# Altium schematic symbol library DDR3_96.Schlib: 1 symbol
Pins are listed as number, name and electrical type; pins without a type are passive.

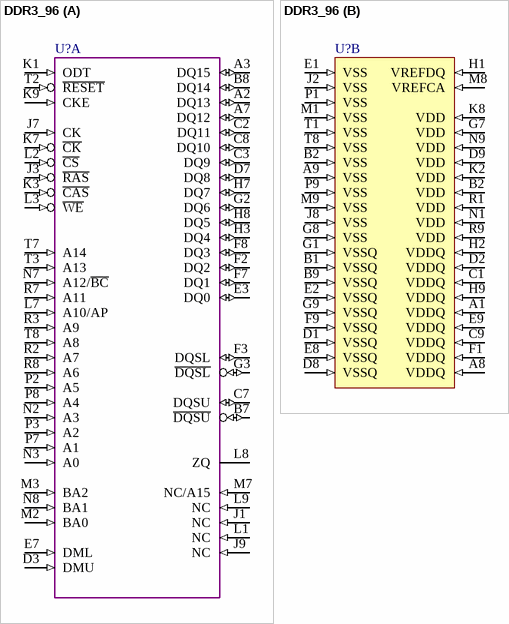
[diagram p0: symbol DDR3_96]

## DDR3_96
designator U?  (value not drawn)
part A pins: A2 DQ13 (io), A3 DQ15 (io), A7 DQ12 (io), B7 ~{DQSU} (io), B8 DQ14 (io), C2 DQ11 (io), C3 DQ9 (io), C7 DQSU (io), C8 DQ10 (io), D3 DMU (in), D7 DQ8 (io), E3 DQ0 (io), E7 DML (in), F2 DQ2 (io), F3 DQSL (io), F7 DQ1 (io), F8 DQ3 (io), G2 DQ6 (io), G3 ~{DQSL} (io), H3 DQ4 (io), H7 DQ7 (io), H8 DQ5 (io), J1 NC (in), J3 ~{RAS} (in), J7 CK (in), J9 NC (in), K1 ODT (in), K3 ~{CAS} (in), K7 ~{CK} (in), K9 CKE (in), L1 NC (in), L2 ~{CS} (in), L3 ~{WE} (in), L7 A10/AP (in), L8 ZQ, L9 NC (in), M2 BA0 (in), M3 BA2 (in), M7 NC/A15 (in), N2 A3 (in), N3 A0 (in), N7 A12/~{BC} (in), N8 BA1 (in), P2 A5 (in), P3 A2 (in), P7 A1 (in), P8 A4 (in), R2 A7 (in), R3 A9 (in), R7 A11 (in), R8 A6 (in), T2 ~{RESET} (in), T3 A13 (in), T7 A14 (in), T8 A8 (in)
part B pins: A1 VDDQ (in), A8 VDDQ (in), A9 VSS (in), B1 VSSQ (in), B2 VSS (in), B2 VDD (in), B9 VSSQ (in), C1 VDDQ (in), C9 VDDQ (in), D1 VSSQ (in), D2 VDDQ (in), D8 VSSQ (in), D9 VDD (in), E1 VSS (in), E2 VSSQ (in), E8 VSSQ (in), E9 VDDQ (in), F1 VDDQ (in), F9 VSSQ (in), G1 VSSQ (in), G7 VDD (in), G8 VSS (in), G9 VSSQ (in), H1 VREFDQ (in), H2 VDDQ (in), H9 VDDQ (in), J2 VSS (in), J8 VSS (in), K2 VDD (in), K8 VDD (in), M1 VSS (in), M8 VREFCA (in), M9 VSS (in), N1 VDD (in), N9 VDD (in), P1 VSS (in), P9 VSS (in), R1 VDD (in), R9 VDD (in), T1 VSS (in), T8 VSS (in)